# EAGLE library part IO_BOARD_CONNECTOR (library timelapse-prototype-parts)
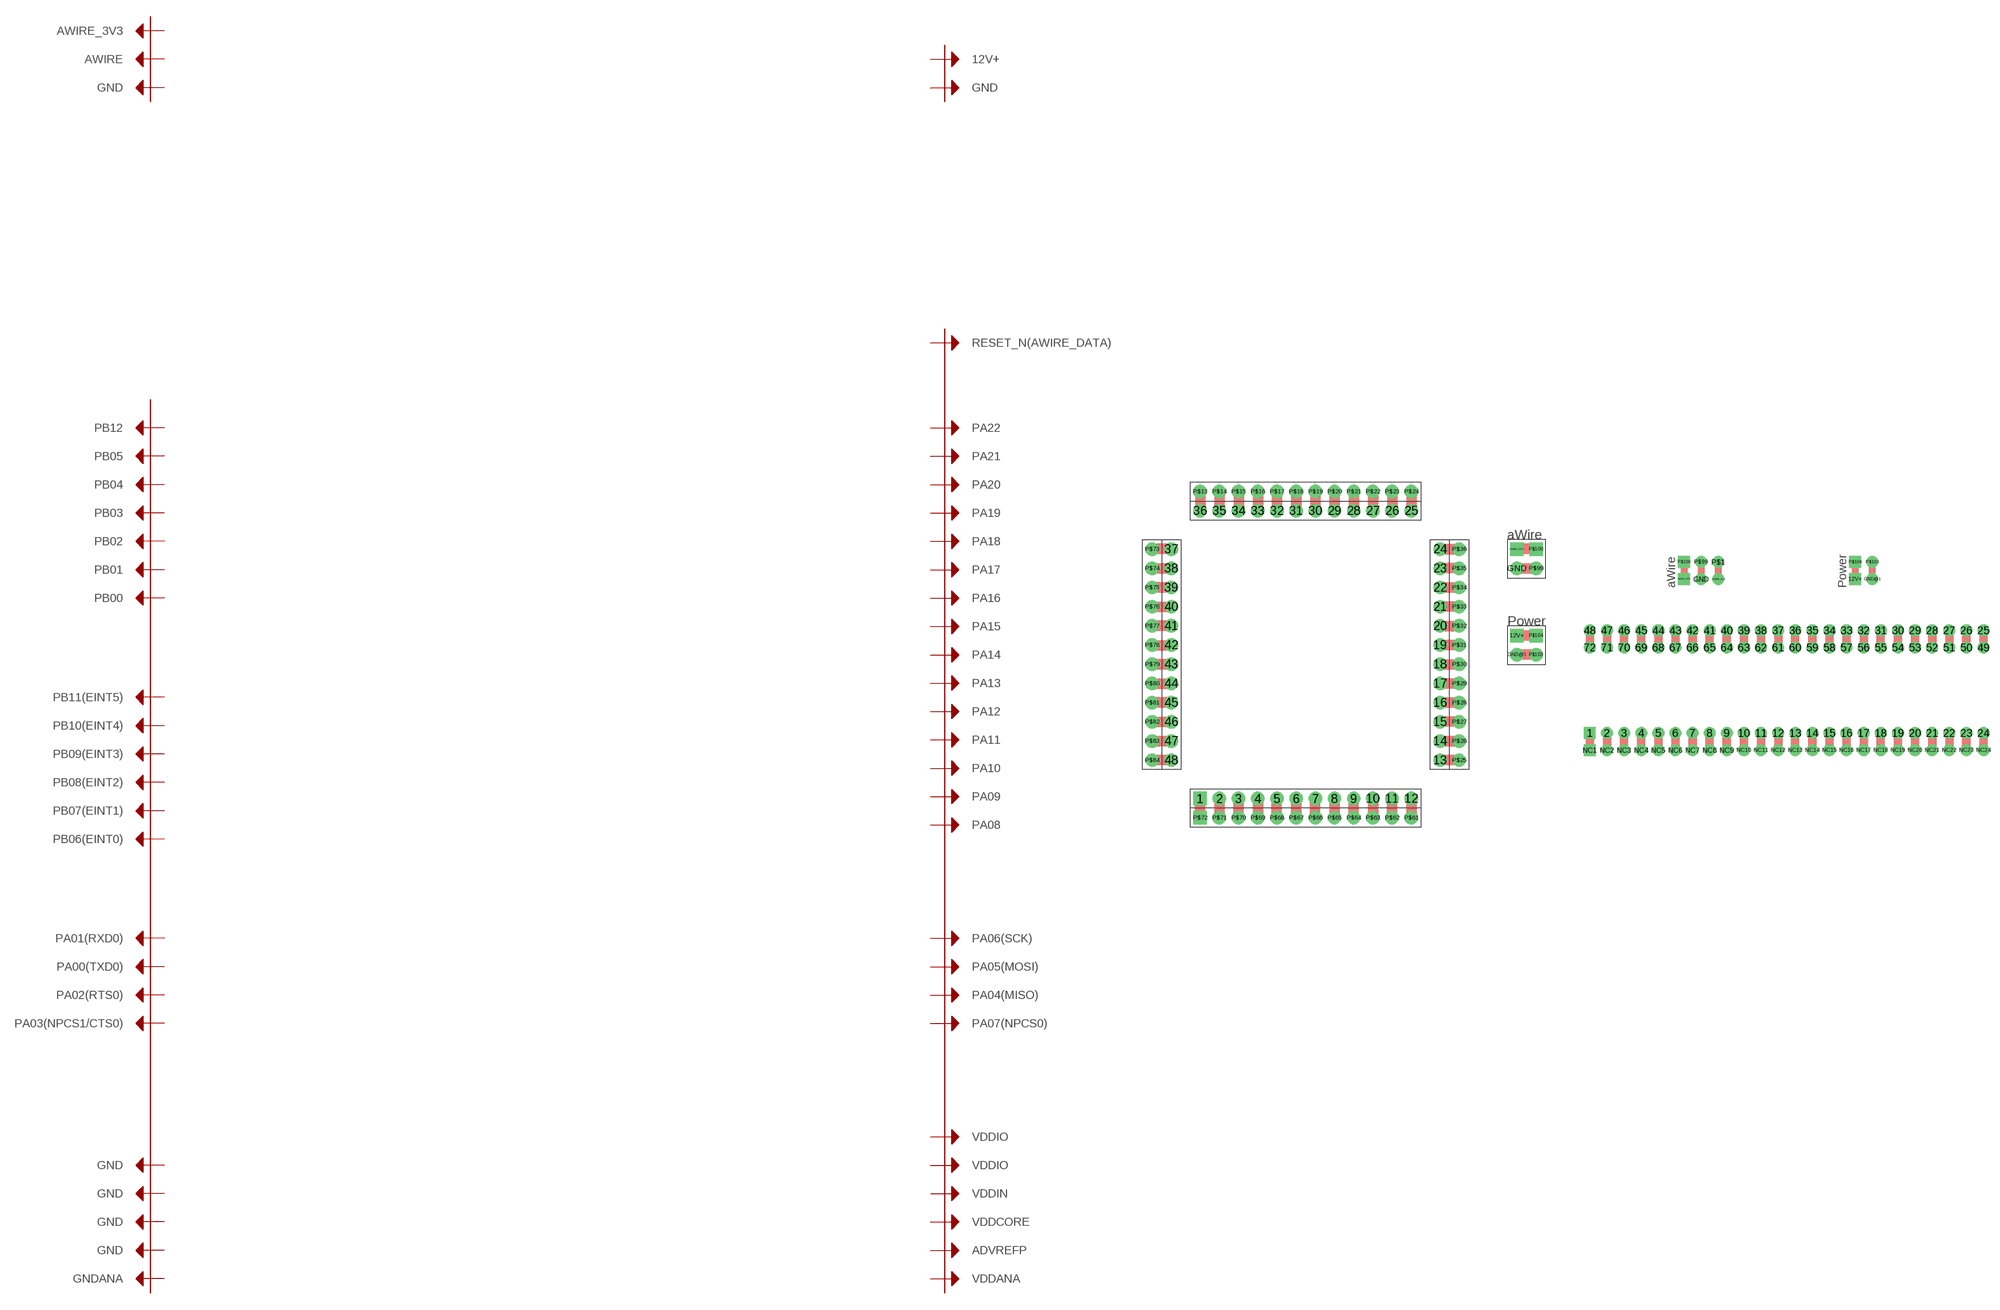
[diagram p0: symbol with the pads of AT32UC3L_IO_BOARD_CONNECTOR; footprints AT32UC3L_IO_BOARD_CONNECTOR, AT32UCL_IO_BOARD_CONNECTOR_V2]

Designator prefix CON

## IO_BOARD_CONNECTORVANHA  [AT32UC3L_IO_BOARD_CONNECTOR]

## IO_BOARD_CONNECTORUUSI  [AT32UCL_IO_BOARD_CONNECTOR_V2]
1  GND
2  PA09
3  PA08
4  PA03(NPCS1/CTS0)
5  PB12
6  PB00
7  PB02
8  PB03
9  PA22
10  PA06(SCK)
11  PA00(TXD0)
12  PA05(MOSI)
12V+  12V+
13  PA02(RTS0)
14  PA01(RXD0)
15  PA07(NPCS0)
16  PB01
17  VDDIN
18  VDDCORE
19  GND
20  PB05
21  PB04
22  RESET_N(AWIRE_DATA)
23  PB10(EINT4)
24  PA21
25  PA20
26  PA13
27  PA11
28  PA04(MISO)
29  PB09(EINT3)
30  PB06(EINT0)
31  PB07(EINT1)
32  PB08(EINT2)
33  GNDANA
34  ADVREFP
35  VDDANA
36  PA14
37  PA15
38  PA16
39  PA17
40  PA19
41  PA18
42  VDDIO
43  GND
44  PB11(EINT5)
45  GND
46  PA10
47  PA12
48  VDDIO
AWIRE_3V3  AWIRE_3V3
AWIRE_DATA  AWIRE
GND  GND
GND@1  GND

## Footprint AT32UC3L_IO_BOARD_CONNECTOR (pad centres in mm)
drill 1 pad 1.778 square: 1 -13.97,-21.59; 12V+ 27.94,0; AWIRE_DATA 27.94,11.43; P$72 -13.97,-24.13; P$100 30.48,11.43; P$104 30.48,0
drill 1 pad 1.778 round: 2 -11.43,-21.59; 3 -8.89,-21.59; 4 -6.35,-21.59; 5 -3.81,-21.59; 6 -1.27,-21.59; 7 1.27,-21.59; 8 3.81,-21.59; 9 6.35,-21.59; 10 8.89,-21.59; 11 11.43,-21.59; 12 13.97,-21.59; 13 17.78,-16.51; 14 17.78,-13.97; 15 17.78,-11.43; 16 17.78,-8.89; 17 17.78,-6.35; 18 17.78,-3.81; 19 17.78,-1.27; 20 17.78,1.27; 21 17.78,3.81; 22 17.78,6.35; 23 17.78,8.89; 24 17.78,11.43; 25 13.97,16.51; 26 11.43,16.51; 27 8.89,16.51; 28 6.35,16.51; 29 3.81,16.51; 30 1.27,16.51; 31 -1.27,16.51; 32 -3.81,16.51; 33 -6.35,16.51; 34 -8.89,16.51; 35 -11.43,16.51; 36 -13.97,16.51; 37 -17.78,11.43; 38 -17.78,8.89; 39 -17.78,6.35; 40 -17.78,3.81; 41 -17.78,1.27; 42 -17.78,-1.27; 43 -17.78,-3.81; 44 -17.78,-6.35; 45 -17.78,-8.89; 46 -17.78,-11.43; 47 -17.78,-13.97; 48 -17.78,-16.51; GND 27.94,8.89; GND@1 27.94,-2.54; P$13 -13.97,19.05; P$14 -11.43,19.05; P$15 -8.89,19.05; P$16 -6.35,19.05; P$17 -3.81,19.05; P$18 -1.27,19.05; P$19 1.27,19.05; P$20 3.81,19.05; P$21 6.35,19.05; P$22 8.89,19.05; P$23 11.43,19.05; P$24 13.97,19.05; P$25 20.32,-16.51; P$26 20.32,-13.97; P$27 20.32,-11.43; P$28 20.32,-8.89; P$29 20.32,-6.35; P$30 20.32,-3.81; P$31 20.32,-1.27; P$32 20.32,1.27; P$33 20.32,3.81; P$34 20.32,6.35; P$35 20.32,8.89; P$36 20.32,11.43; P$61 13.97,-24.13; P$62 11.43,-24.13; P$63 8.89,-24.13; P$64 6.35,-24.13; P$65 3.81,-24.13; P$66 1.27,-24.13; P$67 -1.27,-24.13; P$68 -3.81,-24.13; P$69 -6.35,-24.13; P$70 -8.89,-24.13; P$71 -11.43,-24.13; P$73 -20.32,11.43; P$74 -20.32,8.89; P$75 -20.32,6.35; P$76 -20.32,3.81; P$77 -20.32,1.27; P$78 -20.32,-1.27; P$79 -20.32,-3.81; P$80 -20.32,-6.35; P$81 -20.32,-8.89; P$82 -20.32,-11.43; P$83 -20.32,-13.97; P$84 -20.32,-16.51; P$99 30.48,8.89; P$103 30.48,-2.54

## Footprint AT32UCL_IO_BOARD_CONNECTOR_V2 (pad centres in mm)
drill 1 pad 1.778 square: 1 -15.24,-19.05; 12V+ 24.13,3.81; AWIRE_DATA -1.27,3.81; NC1 -15.24,-21.59; P$100 -1.27,6.35; P$104 24.13,6.35
drill 1 pad 1.778 round: 2 -12.7,-19.05; 3 -10.16,-19.05; 4 -7.62,-19.05; 5 -5.08,-19.05; 6 -2.54,-19.05; 7 0,-19.05; 8 2.54,-19.05; 9 5.08,-19.05; 10 7.62,-19.05; 11 10.16,-19.05; 12 12.7,-19.05; 13 15.24,-19.05; 14 17.78,-19.05; 15 20.32,-19.05; 16 22.86,-19.05; 17 25.4,-19.05; 18 27.94,-19.05; 19 30.48,-19.05; 20 33.02,-19.05; 21 35.56,-19.05; 22 38.1,-19.05; 23 40.64,-19.05; 24 43.18,-19.05; 25 43.18,-3.81; 26 40.64,-3.81; 27 38.1,-3.81; 28 35.56,-3.81; 29 33.02,-3.81; 30 30.48,-3.81; 31 27.94,-3.81; 32 25.4,-3.81; 33 22.86,-3.81; 34 20.32,-3.81; 35 17.78,-3.81; 36 15.24,-3.81; 37 12.7,-3.81; 38 10.16,-3.81; 39 7.62,-3.81; 40 5.08,-3.81; 41 2.54,-3.81; 42 0,-3.81; 43 -2.54,-3.81; 44 -5.08,-3.81; 45 -7.62,-3.81; 46 -10.16,-3.81; 47 -12.7,-3.81; 48 -15.24,-3.81; 49 43.18,-6.35; 50 40.64,-6.35; 51 38.1,-6.35; 52 35.56,-6.35; 53 33.02,-6.35; 54 30.48,-6.35; 55 27.94,-6.35; 56 25.4,-6.35; 57 22.86,-6.35; 58 20.32,-6.35; 59 17.78,-6.35; 60 15.24,-6.35; 61 12.7,-6.35; 62 10.16,-6.35; 63 7.62,-6.35; 64 5.08,-6.35; 65 2.54,-6.35; 66 0,-6.35; 67 -2.54,-6.35; 68 -5.08,-6.35; 69 -7.62,-6.35; 70 -10.16,-6.35; 71 -12.7,-6.35; 72 -15.24,-6.35; AWIRE_3V3 3.81,3.81; GND 1.27,3.81; GND@1 26.67,3.81; NC2 -12.7,-21.59; NC3 -10.16,-21.59; NC4 -7.62,-21.59; NC5 -5.08,-21.59; NC6 -2.54,-21.59; NC7 0,-21.59; NC8 2.54,-21.59; NC9 5.08,-21.59; NC10 7.62,-21.59; NC11 10.16,-21.59; NC12 12.7,-21.59; NC13 15.24,-21.59; NC14 17.78,-21.59; NC15 20.32,-21.59; NC16 22.86,-21.59; NC17 25.4,-21.59; NC18 27.94,-21.59; NC19 30.48,-21.59; NC20 33.02,-21.59; NC21 35.56,-21.59; NC22 38.1,-21.59; NC23 40.64,-21.59; NC24 43.18,-21.59; P$1 3.81,6.35; P$99 1.27,6.35; P$103 26.67,6.35